# Altium schematic symbol library LMR64010.SchLib: 8 symbols
Pins are listed as number, name and electrical type; pins without a type are passive.

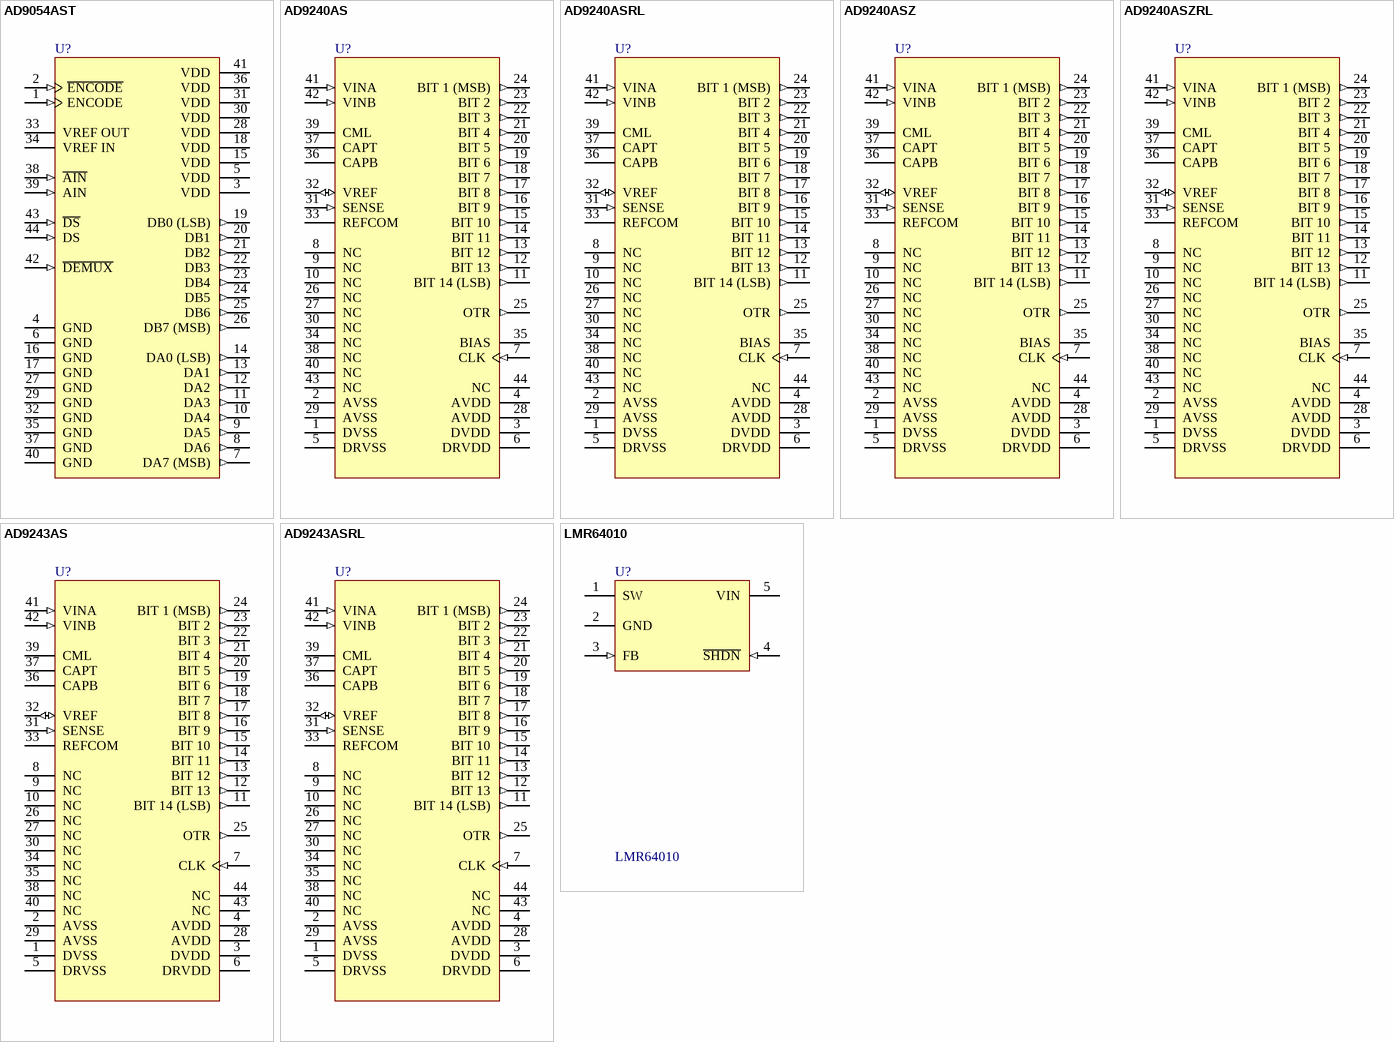
[diagram p0: symbols AD9054AST to LMR64010]

## AD9054AST
designator U?
8-Bit, 200MSPS Analog-to-Digital Converter; Published: 23-Sep-2002; LatestRevisionDate: 13-Apr-2006; LatestRevisionNote: IPC-7351 Footprint Added.; DatasheetVersion: Rev.D 2001; PackageVersion: 2001; PackageReference: ST-44; Publisher: Altium Limited; PackageDescription: 44-Pin Thin Quad Flat Pack 0.8 mm Pitch; ComponentLink1Description: Manufacturer Link; ComponentLink1URL: http://www.analog.com/
footprint ST-44_N (Thin QFP, 44-Leads, Body 10x10mm, Pitch 0.8mm, IPC Medium Density)
footprint ST-44_L (Thin QFP, 44-Leads, Body 10x10mm, Pitch 0.8mm, IPC High Density)
footprint ST-44_M (Thin QFP, 44-Leads, Body 10x10mm, Pitch 0.8mm, IPC Low Density)
3D model 9054A-ST44 (44-Pin Thin Quad Flat Pack 0.8 mm Pitch)
pins: 1 ENCODE (in), 2 ~{ENCODE} (in), 3 VDD (power), 4 GND (power), 5 VDD (power), 6 GND (power), 7 DA7 (MSB) (out), 8 DA6 (out), 9 DA5 (out), 10 DA4 (out), 11 DA3 (out), 12 DA2 (out), 13 DA1 (out), 14 DA0 (LSB) (out), 15 VDD (power), 16 GND (power), 17 GND (power), 18 VDD (power), 19 DB0 (LSB) (out), 20 DB1 (out), 21 DB2 (out), 22 DB3 (out), 23 DB4 (out), 24 DB5 (out), 25 DB6 (out), 26 DB7 (MSB) (out), 27 GND (power), 28 VDD (power), 29 GND (power), 30 VDD (power), 31 VDD (power), 32 GND (power), 33 VREF OUT, 34 VREF IN, 35 GND (power), 36 VDD (power), 37 GND (power), 38 ~{AIN} (in), 39 AIN (in), 40 GND (power), 41 VDD (power), 42 ~{DEMUX} (in), 43 ~{DS} (in), 44 DS (in)

## AD9240AS
designator U?
Complete 14-Bit, 10 MSPS Monolithic A/D Converter, 44-Pin MQFP, Industrial; Published: 26-May-2004; LatestRevisionDate: 13-Apr-2006; LatestRevisionNote: IPC-7351 Footprint Added.; DatasheetVersion: Rev. A; PackageVersion: Rev. A; PackageReference: S-44-MQFP; Publisher: Altium Limited; PackageDescription: 44-Pin Metric Quad Flat Pack 0.8 mm Pitch; Code_IPC: QFP80P1320X1320-44; ComponentLink1Description: Manufacturer Link; ComponentLink1URL: http://www.analog.com/en/prod/0%2C2877%2CAD9240%2C00.html; ComponentLink2Description: Datasheet; ComponentLink2URL: http://www.analog.com/UploadedFiles/Data_Sheets/417954540AD9240_a.pdf
footprint S-44-MQFP_N (QFP, 44-Leads, Body 10x10mm, Pitch 0.8mm, IPC Medium Density)
footprint S-44-MQFP_L (QFP, 44-Leads, Body 10x10mm, Pitch 0.8mm, IPC High Density)
footprint S-44-MQFP_M (QFP, 44-Leads, Body 10x10mm, Pitch 0.8mm, IPC Low Density)
3D model 9240A-S-44-MQFP (44-Pin Metric Quad Flat Pack 0.8 mm Pitch)
pins: 1 DVSS (power), 2 AVSS (power), 3 DVDD (power), 4 AVDD (power), 5 DRVSS (power), 6 DRVDD (power), 7 CLK (in), 8 NC, 9 NC, 10 NC, 11 BIT 14 (LSB) (out), 12 BIT 13 (out), 13 BIT 12 (out), 14 BIT 11 (out), 15 BIT 10 (out), 16 BIT 9 (out), 17 BIT 8 (out), 18 BIT 7 (out), 19 BIT 6 (out), 20 BIT 5 (out), 21 BIT 4 (out), 22 BIT 3 (out), 23 BIT 2 (out), 24 BIT 1 (MSB) (out), 25 OTR (out), 26 NC, 27 NC, 28 AVDD (power), 29 AVSS (power), 30 NC, 31 SENSE (in), 32 VREF (io), 33 REFCOM (power), 34 NC, 35 BIAS, 36 CAPB, 37 CAPT, 38 NC, 39 CML (power), 40 NC, 41 VINA (in), 42 VINB (in), 43 NC, 44 NC

## AD9240ASRL
designator U?
Complete 14-Bit, 10 MSPS Monolithic A/D Converter, 44-Pin MQFP, Commercial; Published: 26-May-2004; LatestRevisionDate: 13-Apr-2006; LatestRevisionNote: IPC-7351 Footprint Added.; DatasheetVersion: Rev. A; PackageVersion: Rev. A; PackageReference: S-44-MQFP; Publisher: Altium Limited; PackageDescription: 44-Pin Metric Quad Flat Pack 0.8 mm Pitch; Code_IPC: QFP80P1320X1320-44; ComponentLink1Description: Manufacturer Link; ComponentLink1URL: http://www.analog.com/en/prod/0%2C2877%2CAD9240%2C00.html; ComponentLink2Description: Datasheet; ComponentLink2URL: http://www.analog.com/UploadedFiles/Data_Sheets/417954540AD9240_a.pdf
footprint S-44-MQFP_N (QFP, 44-Leads, Body 10x10mm, Pitch 0.8mm, IPC Medium Density)
footprint S-44-MQFP_L (QFP, 44-Leads, Body 10x10mm, Pitch 0.8mm, IPC High Density)
footprint S-44-MQFP_M (QFP, 44-Leads, Body 10x10mm, Pitch 0.8mm, IPC Low Density)
3D model 9240A-S-44-MQFP (44-Pin Metric Quad Flat Pack 0.8 mm Pitch)
pins: 1 DVSS (power), 2 AVSS (power), 3 DVDD (power), 4 AVDD (power), 5 DRVSS (power), 6 DRVDD (power), 7 CLK (in), 8 NC, 9 NC, 10 NC, 11 BIT 14 (LSB) (out), 12 BIT 13 (out), 13 BIT 12 (out), 14 BIT 11 (out), 15 BIT 10 (out), 16 BIT 9 (out), 17 BIT 8 (out), 18 BIT 7 (out), 19 BIT 6 (out), 20 BIT 5 (out), 21 BIT 4 (out), 22 BIT 3 (out), 23 BIT 2 (out), 24 BIT 1 (MSB) (out), 25 OTR (out), 26 NC, 27 NC, 28 AVDD (power), 29 AVSS (power), 30 NC, 31 SENSE (in), 32 VREF (io), 33 REFCOM (power), 34 NC, 35 BIAS, 36 CAPB, 37 CAPT, 38 NC, 39 CML (power), 40 NC, 41 VINA (in), 42 VINB (in), 43 NC, 44 NC

## AD9240ASZ
designator U?
Complete 14-Bit, 10 MSPS Monolithic A/D Converter, 44-Pin MQFP, Industrial; Published: 26-May-2004; LatestRevisionDate: 13-Apr-2006; LatestRevisionNote: IPC-7351 Footprint Added.; DatasheetVersion: Rev. A; PackageVersion: Rev. A; PackageReference: S-44-MQFP; Publisher: Altium Limited; PackageDescription: 44-Pin Metric Quad Flat Pack 0.8 mm Pitch; Code_IPC: QFP80P1320X1320-44; ComponentLink1Description: Manufacturer Link; ComponentLink1URL: http://www.analog.com/en/prod/0%2C2877%2CAD9240%2C00.html; ComponentLink2Description: Datasheet; ComponentLink2URL: http://www.analog.com/UploadedFiles/Data_Sheets/417954540AD9240_a.pdf
footprint S-44-MQFP_N (QFP, 44-Leads, Body 10x10mm, Pitch 0.8mm, IPC Medium Density)
footprint S-44-MQFP_L (QFP, 44-Leads, Body 10x10mm, Pitch 0.8mm, IPC High Density)
footprint S-44-MQFP_M (QFP, 44-Leads, Body 10x10mm, Pitch 0.8mm, IPC Low Density)
3D model 9240A-S-44-MQFP (44-Pin Metric Quad Flat Pack 0.8 mm Pitch)
pins: 1 DVSS (power), 2 AVSS (power), 3 DVDD (power), 4 AVDD (power), 5 DRVSS (power), 6 DRVDD (power), 7 CLK (in), 8 NC, 9 NC, 10 NC, 11 BIT 14 (LSB) (out), 12 BIT 13 (out), 13 BIT 12 (out), 14 BIT 11 (out), 15 BIT 10 (out), 16 BIT 9 (out), 17 BIT 8 (out), 18 BIT 7 (out), 19 BIT 6 (out), 20 BIT 5 (out), 21 BIT 4 (out), 22 BIT 3 (out), 23 BIT 2 (out), 24 BIT 1 (MSB) (out), 25 OTR (out), 26 NC, 27 NC, 28 AVDD (power), 29 AVSS (power), 30 NC, 31 SENSE (in), 32 VREF (io), 33 REFCOM (power), 34 NC, 35 BIAS, 36 CAPB, 37 CAPT, 38 NC, 39 CML (power), 40 NC, 41 VINA (in), 42 VINB (in), 43 NC, 44 NC

## AD9240ASZRL
designator U?
Complete 14-Bit, 10 MSPS Monolithic A/D Converter, 44-Pin MQFP, Industrial; Published: 26-May-2004; LatestRevisionDate: 13-Apr-2006; LatestRevisionNote: IPC-7351 Footprint Added.; DatasheetVersion: Rev. A; PackageVersion: Rev. A; PackageReference: S-44-MQFP; Publisher: Altium Limited; PackageDescription: 44-Pin Metric Quad Flat Pack 0.8 mm Pitch; Code_IPC: QFP80P1320X1320-44; ComponentLink1Description: Manufacturer Link; ComponentLink1URL: http://www.analog.com/en/prod/0%2C2877%2CAD9240%2C00.html; ComponentLink2Description: Datasheet; ComponentLink2URL: http://www.analog.com/UploadedFiles/Data_Sheets/417954540AD9240_a.pdf
footprint S-44-MQFP_N (QFP, 44-Leads, Body 10x10mm, Pitch 0.8mm, IPC Medium Density)
footprint S-44-MQFP_L (QFP, 44-Leads, Body 10x10mm, Pitch 0.8mm, IPC High Density)
footprint S-44-MQFP_M (QFP, 44-Leads, Body 10x10mm, Pitch 0.8mm, IPC Low Density)
3D model 9240A-S-44-MQFP (44-Pin Metric Quad Flat Pack 0.8 mm Pitch)
pins: 1 DVSS (power), 2 AVSS (power), 3 DVDD (power), 4 AVDD (power), 5 DRVSS (power), 6 DRVDD (power), 7 CLK (in), 8 NC, 9 NC, 10 NC, 11 BIT 14 (LSB) (out), 12 BIT 13 (out), 13 BIT 12 (out), 14 BIT 11 (out), 15 BIT 10 (out), 16 BIT 9 (out), 17 BIT 8 (out), 18 BIT 7 (out), 19 BIT 6 (out), 20 BIT 5 (out), 21 BIT 4 (out), 22 BIT 3 (out), 23 BIT 2 (out), 24 BIT 1 (MSB) (out), 25 OTR (out), 26 NC, 27 NC, 28 AVDD (power), 29 AVSS (power), 30 NC, 31 SENSE (in), 32 VREF (io), 33 REFCOM (power), 34 NC, 35 BIAS, 36 CAPB, 37 CAPT, 38 NC, 39 CML (power), 40 NC, 41 VINA (in), 42 VINB (in), 43 NC, 44 NC

## AD9243AS
designator U?
Complete 14-Bit, 3 MSPS Monolithic A/D Converter, 44-Pin MQFP, Industrial; Published: 26-May-2004; LatestRevisionDate: 13-Apr-2006; LatestRevisionNote: IPC-7351 Footprint Added.; DatasheetVersion: Rev. A, 1998; PackageVersion: Rev. A; PackageReference: S-44-MQFP; Publisher: Altium Limited; PackageDescription: 44-Pin Metric Quad Flat Pack 0.8 mm Pitch; Code_IPC: QFP80P1320X1320-44; ComponentLink1Description: Manufacturer Link; ComponentLink1URL: http://www.analog.com/en/prod/0%2C2877%2CAD9243%2C00.html; ComponentLink2Description: Datasheet; ComponentLink2URL: http://www.analog.com/UploadedFiles/Data_Sheets/743220193AD9243_a.pdf
footprint S-44-MQFP_N (QFP, 44-Leads, Body 10x10mm, Pitch 0.8mm, IPC Medium Density)
footprint S-44-MQFP_L (QFP, 44-Leads, Body 10x10mm, Pitch 0.8mm, IPC High Density)
footprint S-44-MQFP_M (QFP, 44-Leads, Body 10x10mm, Pitch 0.8mm, IPC Low Density)
3D model 9243A-S-44-MQFP (44-Pin Metric Quad Flat Pack 0.8 mm Pitch)
pins: 1 DVSS (power), 2 AVSS (power), 3 DVDD (power), 4 AVDD (power), 5 DRVSS (power), 6 DRVDD (power), 7 CLK (in), 8 NC, 9 NC, 10 NC, 11 BIT 14 (LSB) (out), 12 BIT 13 (out), 13 BIT 12 (out), 14 BIT 11 (out), 15 BIT 10 (out), 16 BIT 9 (out), 17 BIT 8 (out), 18 BIT 7 (out), 19 BIT 6 (out), 20 BIT 5 (out), 21 BIT 4 (out), 22 BIT 3 (out), 23 BIT 2 (out), 24 BIT 1 (MSB) (out), 25 OTR (out), 26 NC, 27 NC, 28 AVDD (power), 29 AVSS (power), 30 NC, 31 SENSE (in), 32 VREF (io), 33 REFCOM (power), 34 NC, 35 NC, 36 CAPB, 37 CAPT, 38 NC, 39 CML (power), 40 NC, 41 VINA (in), 42 VINB (in), 43 NC, 44 NC

## AD9243ASRL
designator U?
Complete 14-Bit, 3 MSPS Monolithic A/D Converter, 44-Pin MQFP, Commercial; Published: 26-May-2004; LatestRevisionDate: 13-Apr-2006; LatestRevisionNote: IPC-7351 Footprint Added.; DatasheetVersion: Rev. A, 1998; PackageVersion: Rev. A; PackageReference: S-44-MQFP; Publisher: Altium Limited; PackageDescription: 44-Pin Metric Quad Flat Pack 0.8 mm Pitch; Code_IPC: QFP80P1320X1320-44; ComponentLink1Description: Manufacturer Link; ComponentLink1URL: http://www.analog.com/en/prod/0%2C2877%2CAD9243%2C00.html; ComponentLink2Description: Datasheet; ComponentLink2URL: http://www.analog.com/UploadedFiles/Data_Sheets/743220193AD9243_a.pdf
footprint S-44-MQFP_N (QFP, 44-Leads, Body 10x10mm, Pitch 0.8mm, IPC Medium Density)
footprint S-44-MQFP_L (QFP, 44-Leads, Body 10x10mm, Pitch 0.8mm, IPC High Density)
footprint S-44-MQFP_M (QFP, 44-Leads, Body 10x10mm, Pitch 0.8mm, IPC Low Density)
3D model 9243A-S-44-MQFP (44-Pin Metric Quad Flat Pack 0.8 mm Pitch)
pins: 1 DVSS (power), 2 AVSS (power), 3 DVDD (power), 4 AVDD (power), 5 DRVSS (power), 6 DRVDD (power), 7 CLK (in), 8 NC, 9 NC, 10 NC, 11 BIT 14 (LSB) (out), 12 BIT 13 (out), 13 BIT 12 (out), 14 BIT 11 (out), 15 BIT 10 (out), 16 BIT 9 (out), 17 BIT 8 (out), 18 BIT 7 (out), 19 BIT 6 (out), 20 BIT 5 (out), 21 BIT 4 (out), 22 BIT 3 (out), 23 BIT 2 (out), 24 BIT 1 (MSB) (out), 25 OTR (out), 26 NC, 27 NC, 28 AVDD (power), 29 AVSS (power), 30 NC, 31 SENSE (in), 32 VREF (io), 33 REFCOM (power), 34 NC, 35 NC, 36 CAPB, 37 CAPT, 38 NC, 39 CML (power), 40 NC, 41 VINA (in), 42 VINB (in), 43 NC, 44 NC

## LMR64010
designator U?
8-Bit 20 MSPS, 60 mW Sampling A/D Converter, 24-Pin SOIC, Commercial; Published: 26-May-2004; LatestRevisionDate: 13-Apr-2006; LatestRevisionNote: IPC-7351 Footprint Added.; DatasheetVersion: Rev. 0; PackageVersion: Rev. 0; PackageReference: R-24A; Publisher: Altium Limited; PackageDescription: 24-Pin Small Outline Package 1.27 mm Pitch; ComponentLink1Description: Manufacturer Link; ComponentLink1URL: http://www.analog.com/en/prod/0%2C2877%2CAD775%2C00.html; ComponentLink2Description: Datasheet; ComponentLink2URL: http://www.analog.com/UploadedFiles/Data_Sheets/6143885ad775.pdf
pins: 1 SW (power), 2 GND (power), 3 FB (in), 4 ~{SHDN} (in), 5 VIN (power)